# EAGLE library part AD807* (library analog-devices)
500 MHz, G = +1 and +2 Triple Video Buffers with Disable Source: http://www.analog.com/static/imported-files/data_sheets/AD8074_8075.pdf
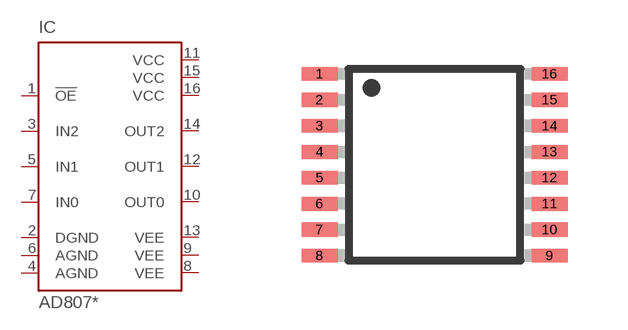
[diagram p98: symbol with the pads of TSSOP16; footprint TSSOP16]

Designator prefix IC

## AD8074RU (MPN: AD8074ARUZ; OC_FARNELL: 9426027; OC_NEWARK: 19M0929), AD8075RU (MPN: AD8075ARUZ; OC_FARNELL: 9426035; OC_NEWARK: 19M0930)  [TSSOP16]
1  !OE  in
2  DGND  in
3  IN2  in
4  AGND  in
5  IN1  in
6  AGND  in
7  IN0  in
8  VEE  in
9  VEE  in
10  OUT0  hiz
11  VCC  in
12  OUT1  hiz
13  VEE  in
14  OUT2  hiz
15  VCC  in
16  VCC  in

## Footprint TSSOP16 (pad centres in mm)
16-Lead Thin Shrink Small Outline Package [TSSOP] (RU-16) Source: 8x ADG1408_1409.pdf
smd 0.9 x 0.35: 1 -2.875,2.275; 2 -2.875,1.625; 3 -2.875,0.975; 4 -2.875,0.325; 5 -2.875,-0.325; 6 -2.875,-0.975; 7 -2.875,-1.625; 8 -2.875,-2.275; 9 2.875,-2.275; 10 2.875,-1.625; 11 2.875,-0.975; 12 2.875,-0.325; 13 2.875,0.325; 14 2.875,0.975; 15 2.875,1.625; 16 2.875,2.275